# EAGLE library part BBH_P9 (library logic-supply)
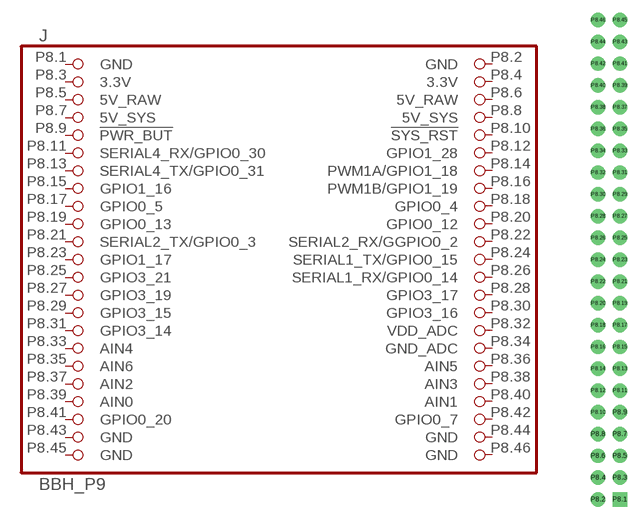
[diagram p15: symbol with the pads of 2X23; footprint 2X23]

Designator prefix J

## BBH_P9  [2X23]
P8.1  GND  pwr
P8.2  GND  pwr
P8.3  3.3V  pwr
P8.4  3.3V  pwr
P8.5  5V_RAW  pwr
P8.6  5V_RAW  pwr
P8.7  5V_SYS  pwr
P8.8  5V_SYS  pwr
P8.9  !PWR_BUT  in
P8.10  !SYS_RST  in
P8.11  SERIAL4_RX/GPIO0_30
P8.12  GPIO1_28
P8.13  SERIAL4_TX/GPIO0_31
P8.14  PWM1A/GPIO1_18
P8.15  GPIO1_16
P8.16  PWM1B/GPIO1_19
P8.17  GPIO0_5
P8.18  GPIO0_4
P8.19  GPIO0_13
P8.20  GPIO0_12
P8.21  SERIAL2_TX/GPIO0_3
P8.22  SERIAL2_RX/GGPIO0_2
P8.23  GPIO1_17
P8.24  SERIAL1_TX/GPIO0_15
P8.25  GPIO3_21
P8.26  SERIAL1_RX/GPIO0_14
P8.27  GPIO3_19
P8.28  GPIO3_17
P8.29  GPIO3_15
P8.30  GPIO3_16
P8.31  GPIO3_14
P8.32  VDD_ADC
P8.33  AIN4  in
P8.34  GND_ADC
P8.35  AIN6  in
P8.36  AIN5  in
P8.37  AIN2  in
P8.38  AIN3  in
P8.39  AIN0  in
P8.40  AIN1  in
P8.41  GPIO0_20
P8.42  GPIO0_7
P8.43  GND
P8.44  GND
P8.45  GND
P8.46  GND

## Footprint 2X23 (pad centres in mm)
drill 1 pad 1.676 square: P8.1 0,0
drill 1 pad 1.676: P8.2 -2.54,0; P8.3 0,2.54; P8.4 -2.54,2.54; P8.5 0,5.08; P8.6 -2.54,5.08; P8.7 0,7.62; P8.8 -2.54,7.62; P8.9 0,10.16; P8.10 -2.54,10.16; P8.11 0,12.7; P8.12 -2.54,12.7; P8.13 0,15.24; P8.14 -2.54,15.24; P8.15 0,17.78; P8.16 -2.54,17.78; P8.17 0,20.32; P8.18 -2.54,20.32; P8.19 0,22.86; P8.20 -2.54,22.86; P8.21 0,25.4; P8.22 -2.54,25.4; P8.23 0,27.94; P8.24 -2.54,27.94; P8.25 0,30.48; P8.26 -2.54,30.48; P8.27 0,33.02; P8.28 -2.54,33.02; P8.29 0,35.56; P8.30 -2.54,35.56; P8.31 0,38.1; P8.32 -2.54,38.1; P8.33 0,40.64; P8.34 -2.54,40.64; P8.35 0,43.18; P8.36 -2.54,43.18; P8.37 0,45.72; P8.38 -2.54,45.72; P8.39 0,48.26; P8.40 -2.54,48.26; P8.41 0,50.8; P8.42 -2.54,50.8; P8.43 0,53.34; P8.44 -2.54,53.34; P8.45 0,55.88; P8.46 -2.54,55.88